# EAGLE library part NRF24L01 (library GRITSBot)
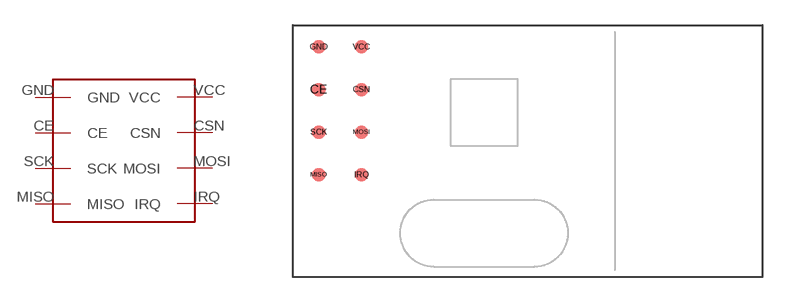
[diagram p14: symbol with the pads of NRF24L01; footprint NRF24L01]

Designator prefix -

## NRF24L01  [NRF24L01]
CE  CE
CSN  CSN
GND  GND
IRQ  IRQ
MISO  MISO
MOSI  MOSI
SCK  SCK
VCC  VCC

## Footprint NRF24L01 (pad centres in mm)
smd 0.8 x 0.8: CE 1.54,11.16; CSN 4.08,11.16; GND 1.54,13.7; IRQ 4.08,6.08; MISO 1.54,6.08; MOSI 4.08,8.62; SCK 1.54,8.62; VCC 4.08,13.7